# Altium footprint library Package_QFP.PcbLib: 99 footprints (part 7 of 7)
Each footprint in its own frame and in the unit in brackets; x right, y up, seen from the top. Pads: shape width x height; smd on the part's side, far side on the other; paste and mask are expansions set on the pad; w line width, h text height; cw(c..) or ccw(c..) is an arc to the next point about the centre after c.
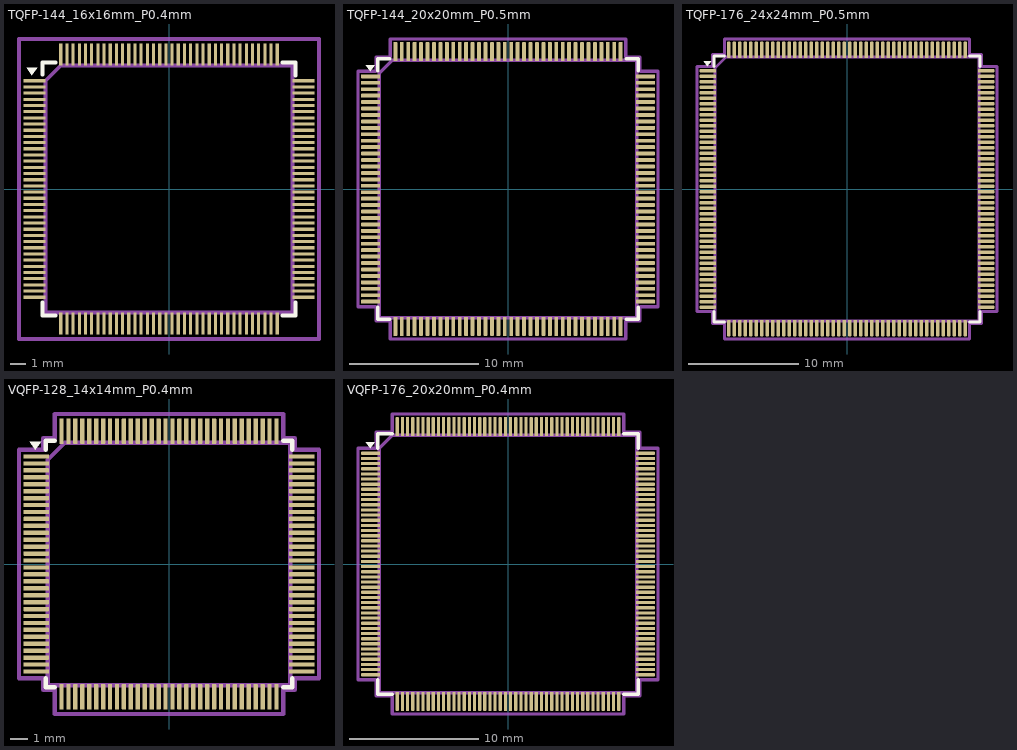
[diagram p6: the footprints below, top view; thin cyan lines are the x and y axes]

## TQFP-144_16x16mm_P0.4mm [mm]
pads (144):
  rect 1.45x0.2 smd: 1(-8.7,7) 2(-8.7,6.6) 3(-8.7,6.2) 4(-8.7,5.8) 5(-8.7,5.4) 6(-8.7,5) 7(-8.7,4.6) 8(-8.7,4.2) 9(-8.7,3.8) 10(-8.7,3.4) 11(-8.7,3) 12(-8.7,2.6) 13(-8.7,2.2) 14(-8.7,1.8) 15(-8.7,1.4) 16(-8.7,1) 17(-8.7,0.6) 18(-8.7,0.2) 19(-8.7,-0.2) 20(-8.7,-0.6) 21(-8.7,-1) 22(-8.7,-1.4) 23(-8.7,-1.8) 24(-8.7,-2.2) 25(-8.7,-2.6) 26(-8.7,-3) 27(-8.7,-3.4) 28(-8.7,-3.8) 29(-8.7,-4.2) 30(-8.7,-4.6) 31(-8.7,-5) 32(-8.7,-5.4) 33(-8.7,-5.8) 34(-8.7,-6.2) 35(-8.7,-6.6) 36(-8.7,-7) 73(8.7,-7) 74(8.7,-6.6) 75(8.7,-6.2) 76(8.7,-5.8) 77(8.7,-5.4) 78(8.7,-5) 79(8.7,-4.6) 80(8.7,-4.2) 81(8.7,-3.8) 82(8.7,-3.4) 83(8.7,-3) 84(8.7,-2.6) 85(8.7,-2.2) 86(8.7,-1.8) 87(8.7,-1.4) 88(8.7,-1) 89(8.7,-0.6) 90(8.7,-0.2) 91(8.7,0.2) 92(8.7,0.6) 93(8.7,1) 94(8.7,1.4) 95(8.7,1.8) 96(8.7,2.2) 97(8.7,2.6) 98(8.7,3) 99(8.7,3.4) 100(8.7,3.8) 101(8.7,4.2) 102(8.7,4.6) 103(8.7,5) 104(8.7,5.4) 105(8.7,5.8) 106(8.7,6.2) 107(8.7,6.6) 108(8.7,7)
  rect 0.2x1.45 smd: 37(-7,-8.7) 38(-6.6,-8.7) 39(-6.2,-8.7) 40(-5.8,-8.7) 41(-5.4,-8.7) 42(-5,-8.7) 43(-4.6,-8.7) 44(-4.2,-8.7) 45(-3.8,-8.7) 46(-3.4,-8.7) 47(-3,-8.7) 48(-2.6,-8.7) 49(-2.2,-8.7) 50(-1.8,-8.7) 51(-1.4,-8.7) 52(-1,-8.7) 53(-0.6,-8.7) 54(-0.2,-8.7) 55(0.2,-8.7) 56(0.6,-8.7) 57(1,-8.7) 58(1.4,-8.7) 59(1.8,-8.7) 60(2.2,-8.7) 61(2.6,-8.7) 62(3,-8.7) 63(3.4,-8.7) 64(3.8,-8.7) 65(4.2,-8.7) 66(4.6,-8.7) 67(5,-8.7) 68(5.4,-8.7) 69(5.8,-8.7) 70(6.2,-8.7) 71(6.6,-8.7) 72(7,-8.7) 109(7,8.7) 110(6.6,8.7) 111(6.2,8.7) 112(5.8,8.7) 113(5.4,8.7) 114(5,8.7) 115(4.6,8.7) 116(4.2,8.7) 117(3.8,8.7) 118(3.4,8.7) 119(3,8.7) 120(2.6,8.7) 121(2.2,8.7) 122(1.8,8.7) 123(1.4,8.7) 124(1,8.7) 125(0.6,8.7) 126(0.2,8.7) 127(-0.2,8.7) 128(-0.6,8.7) 129(-1,8.7) 130(-1.4,8.7) 131(-1.8,8.7) 132(-2.2,8.7) 133(-2.6,8.7) 134(-3,8.7) 135(-3.4,8.7) 136(-3.8,8.7) 137(-4.2,8.7) 138(-4.6,8.7) 139(-5,8.7) 140(-5.4,8.7) 141(-5.8,8.7) 142(-6.2,8.7) 143(-6.6,8.7) 144(-7,8.7)
F.SilkS:
  region: -8.87,7.36 -9.21,7.83 -8.53,7.83
  lines w0.254: -8.175,-7.325 -8.175,-8.175 -7.325,-8.175 ; -8.175,7.4 -8.175,8.175 -7.325,8.175 ; 7.325,-8.175 8.175,-8.175 8.175,-7.325 ; 7.325,8.175 8.175,8.175 8.175,7.325
Top Assembly:
  lines w0.254: -8,-8 8,-8 8,8 -7,8 -8,7 -8,-8
  text "'.Designator'" at -4.047,-0.84 h1
Top Courtyard:
  lines w0.254: -9.7,-9.7 9.7,-9.7 9.7,9.7 -9.7,9.7 -9.7,-9.7
Top Designator:
  text ".Designator" at -7.618,-0.508 h1.52

## TQFP-144_20x20mm_P0.5mm [mm]
pads (144):
  rrect25% 1.475x0.3 smd: 1(-10.663,8.75) 2(-10.663,8.25) 3(-10.663,7.75) 4(-10.663,7.25) 5(-10.663,6.75) 6(-10.663,6.25) 7(-10.663,5.75) 8(-10.663,5.25) 9(-10.663,4.75) 10(-10.663,4.25) 11(-10.663,3.75) 12(-10.663,3.25) 13(-10.663,2.75) 14(-10.663,2.25) 15(-10.663,1.75) 16(-10.663,1.25) 17(-10.663,0.75) 18(-10.663,0.25) 19(-10.663,-0.25) 20(-10.663,-0.75) 21(-10.663,-1.25) 22(-10.663,-1.75) 23(-10.663,-2.25) 24(-10.663,-2.75) 25(-10.663,-3.25) 26(-10.663,-3.75) 27(-10.663,-4.25) 28(-10.663,-4.75) 29(-10.663,-5.25) 30(-10.663,-5.75) 31(-10.663,-6.25) 32(-10.663,-6.75) 33(-10.663,-7.25) 34(-10.663,-7.75) 35(-10.663,-8.25) 36(-10.663,-8.75) 73(10.663,-8.75) 74(10.663,-8.25) 75(10.663,-7.75) 76(10.663,-7.25) 77(10.663,-6.75) 78(10.663,-6.25) 79(10.663,-5.75) 80(10.663,-5.25) 81(10.663,-4.75) 82(10.663,-4.25) 83(10.663,-3.75) 84(10.663,-3.25) 85(10.663,-2.75) 86(10.663,-2.25) 87(10.663,-1.75) 88(10.663,-1.25) 89(10.663,-0.75) 90(10.663,-0.25) 91(10.663,0.25) 92(10.663,0.75) 93(10.663,1.25) 94(10.663,1.75) 95(10.663,2.25) 96(10.663,2.75) 97(10.663,3.25) 98(10.663,3.75) 99(10.663,4.25) 100(10.663,4.75) 101(10.663,5.25) 102(10.663,5.75) 103(10.663,6.25) 104(10.663,6.75) 105(10.663,7.25) 106(10.663,7.75) 107(10.663,8.25) 108(10.663,8.75)
  rrect25% 0.3x1.475 smd: 37(-8.75,-10.663) 38(-8.25,-10.663) 39(-7.75,-10.663) 40(-7.25,-10.663) 41(-6.75,-10.663) 42(-6.25,-10.663) 43(-5.75,-10.663) 44(-5.25,-10.663) 45(-4.75,-10.663) 46(-4.25,-10.663) 47(-3.75,-10.663) 48(-3.25,-10.663) 49(-2.75,-10.663) 50(-2.25,-10.663) 51(-1.75,-10.663) 52(-1.25,-10.663) 53(-0.75,-10.663) 54(-0.25,-10.663) 55(0.25,-10.663) 56(0.75,-10.663) 57(1.25,-10.663) 58(1.75,-10.663) 59(2.25,-10.663) 60(2.75,-10.663) 61(3.25,-10.663) 62(3.75,-10.663) 63(4.25,-10.663) 64(4.75,-10.663) 65(5.25,-10.663) 66(5.75,-10.663) 67(6.25,-10.663) 68(6.75,-10.663) 69(7.25,-10.663) 70(7.75,-10.663) 71(8.25,-10.663) 72(8.75,-10.663) 109(8.75,10.663) 110(8.25,10.663) 111(7.75,10.663) 112(7.25,10.663) 113(6.75,10.663) 114(6.25,10.663) 115(5.75,10.663) 116(5.25,10.663) 117(4.75,10.663) 118(4.25,10.663) 119(3.75,10.663) 120(3.25,10.663) 121(2.75,10.663) 122(2.25,10.663) 123(1.75,10.663) 124(1.25,10.663) 125(0.75,10.663) 126(0.25,10.663) 127(-0.25,10.663) 128(-0.75,10.663) 129(-1.25,10.663) 130(-1.75,10.663) 131(-2.25,10.663) 132(-2.75,10.663) 133(-3.25,10.663) 134(-3.75,10.663) 135(-4.25,10.663) 136(-4.75,10.663) 137(-5.25,10.663) 138(-5.75,10.663) 139(-6.25,10.663) 140(-6.75,10.663) 141(-7.25,10.663) 142(-7.75,10.663) 143(-8.25,10.663) 144(-8.75,10.663)
F.SilkS:
  region: -10.7,9.16 -11.04,9.63 -10.36,9.63
  lines w0.254: -10.11,-9.16 -10.11,-10.11 -9.16,-10.11 ; -10.11,9.16 -10.11,10.11 -9.16,10.11 ; 9.16,-10.11 10.11,-10.11 10.11,-9.16 ; 9.16,10.11 10.11,10.11 10.11,9.16
Top Assembly:
  lines w0.254: -10,-10 10,-10 10,10 -9,10 -10,9 -10,-10
  text "'.Designator'" at -4.047,-0.84 h1
Top Courtyard:
  lines w0.254: -11.65,-9.15 -10.25,-9.15 -10.25,-10.25 -9.15,-10.25 -9.15,-11.65 9.15,-11.65 9.15,-10.25 10.25,-10.25 10.25,-9.15 11.65,-9.15 11.65,9.15 10.25,9.15 10.25,10.25 9.15,10.25 9.15,11.65 -9.15,11.65 -9.15,10.25 -10.25,10.25 -10.25,9.15 -11.65,9.15 -11.65,-9.15
Top Designator:
  text ".Designator" at -7.618,-0.508 h1.52

## TQFP-176_24x24mm_P0.5mm [mm]
pads (176):
  rrect25% 1.475x0.3 smd: 1(-12.662,10.75) 2(-12.662,10.25) 3(-12.662,9.75) 4(-12.662,9.25) 5(-12.662,8.75) 6(-12.662,8.25) 7(-12.662,7.75) 8(-12.662,7.25) 9(-12.662,6.75) 10(-12.662,6.25) 11(-12.662,5.75) 12(-12.662,5.25) 13(-12.662,4.75) 14(-12.662,4.25) 15(-12.662,3.75) 16(-12.662,3.25) 17(-12.662,2.75) 18(-12.662,2.25) 19(-12.662,1.75) 20(-12.662,1.25) 21(-12.662,0.75) 22(-12.662,0.25) 23(-12.662,-0.25) 24(-12.662,-0.75) 25(-12.662,-1.25) 26(-12.662,-1.75) 27(-12.662,-2.25) 28(-12.662,-2.75) 29(-12.662,-3.25) 30(-12.662,-3.75) 31(-12.662,-4.25) 32(-12.662,-4.75) 33(-12.662,-5.25) 34(-12.662,-5.75) 35(-12.662,-6.25) 36(-12.662,-6.75) 37(-12.662,-7.25) 38(-12.662,-7.75) 39(-12.662,-8.25) 40(-12.662,-8.75) 41(-12.662,-9.25) 42(-12.662,-9.75) 43(-12.662,-10.25) 44(-12.662,-10.75) 89(12.662,-10.75) 90(12.662,-10.25) 91(12.662,-9.75) 92(12.662,-9.25) 93(12.662,-8.75) 94(12.662,-8.25) 95(12.662,-7.75) 96(12.662,-7.25) 97(12.662,-6.75) 98(12.662,-6.25) 99(12.662,-5.75) 100(12.662,-5.25) 101(12.662,-4.75) 102(12.662,-4.25) 103(12.662,-3.75) 104(12.662,-3.25) 105(12.662,-2.75) 106(12.662,-2.25) 107(12.662,-1.75) 108(12.662,-1.25) 109(12.662,-0.75) 110(12.662,-0.25) 111(12.662,0.25) 112(12.662,0.75) 113(12.662,1.25) 114(12.662,1.75) 115(12.662,2.25) 116(12.662,2.75) 117(12.662,3.25) 118(12.662,3.75) 119(12.662,4.25) 120(12.662,4.75) 121(12.662,5.25) 122(12.662,5.75) 123(12.662,6.25) 124(12.662,6.75) 125(12.662,7.25) 126(12.662,7.75) 127(12.662,8.25) 128(12.662,8.75) 129(12.662,9.25) 130(12.662,9.75) 131(12.662,10.25) 132(12.662,10.75)
  rrect25% 0.3x1.475 smd: 45(-10.75,-12.662) 46(-10.25,-12.662) 47(-9.75,-12.662) 48(-9.25,-12.662) 49(-8.75,-12.662) 50(-8.25,-12.662) 51(-7.75,-12.662) 52(-7.25,-12.662) 53(-6.75,-12.662) 54(-6.25,-12.662) 55(-5.75,-12.662) 56(-5.25,-12.662) 57(-4.75,-12.662) 58(-4.25,-12.662) 59(-3.75,-12.662) 60(-3.25,-12.662) 61(-2.75,-12.662) 62(-2.25,-12.662) 63(-1.75,-12.662) 64(-1.25,-12.662) 65(-0.75,-12.662) 66(-0.25,-12.662) 67(0.25,-12.662) 68(0.75,-12.662) 69(1.25,-12.662) 70(1.75,-12.662) 71(2.25,-12.662) 72(2.75,-12.662) 73(3.25,-12.662) 74(3.75,-12.662) 75(4.25,-12.662) 76(4.75,-12.662) 77(5.25,-12.662) 78(5.75,-12.662) 79(6.25,-12.662) 80(6.75,-12.662) 81(7.25,-12.662) 82(7.75,-12.662) 83(8.25,-12.662) 84(8.75,-12.662) 85(9.25,-12.662) 86(9.75,-12.662) 87(10.25,-12.662) 88(10.75,-12.662) 133(10.75,12.662) 134(10.25,12.662) 135(9.75,12.662) 136(9.25,12.662) 137(8.75,12.662) 138(8.25,12.662) 139(7.75,12.662) 140(7.25,12.662) 141(6.75,12.662) 142(6.25,12.662) 143(5.75,12.662) 144(5.25,12.662) 145(4.75,12.662) 146(4.25,12.662) 147(3.75,12.662) 148(3.25,12.662) 149(2.75,12.662) 150(2.25,12.662) 151(1.75,12.662) 152(1.25,12.662) 153(0.75,12.662) 154(0.25,12.662) 155(-0.25,12.662) 156(-0.75,12.662) 157(-1.25,12.662) 158(-1.75,12.662) 159(-2.25,12.662) 160(-2.75,12.662) 161(-3.25,12.662) 162(-3.75,12.662) 163(-4.25,12.662) 164(-4.75,12.662) 165(-5.25,12.662) 166(-5.75,12.662) 167(-6.25,12.662) 168(-6.75,12.662) 169(-7.25,12.662) 170(-7.75,12.662) 171(-8.25,12.662) 172(-8.75,12.662) 173(-9.25,12.662) 174(-9.75,12.662) 175(-10.25,12.662) 176(-10.75,12.662)
F.SilkS:
  region: -12.7,11.16 -13.04,11.63 -12.36,11.63
  lines w0.254: -12.11,-11.16 -12.11,-12.11 -11.16,-12.11 ; -12.11,11.16 -12.11,12.11 -11.16,12.11 ; 11.16,-12.11 12.11,-12.11 12.11,-11.16 ; 11.16,12.11 12.11,12.11 12.11,11.16
Top Assembly:
  lines w0.254: -12,-12 12,-12 12,12 -11,12 -12,11 -12,-12
  text "'.Designator'" at -4.047,-0.84 h1
Top Courtyard:
  lines w0.254: -13.65,-11.15 -12.25,-11.15 -12.25,-12.25 -11.15,-12.25 -11.15,-13.65 11.15,-13.65 11.15,-12.25 12.25,-12.25 12.25,-11.15 13.65,-11.15 13.65,11.15 12.25,11.15 12.25,12.25 11.15,12.25 11.15,13.65 -11.15,13.65 -11.15,12.25 -12.25,12.25 -12.25,11.15 -13.65,11.15 -13.65,-11.15
Top Designator:
  text ".Designator" at -7.618,-0.508 h1.52

## VQFP-128_14x14mm_P0.4mm [mm]
pads (128):
  rrect25% 1.475x0.25 smd: 1(-7.662,6.2) 2(-7.662,5.8) 3(-7.662,5.4) 4(-7.662,5) 5(-7.662,4.6) 6(-7.662,4.2) 7(-7.662,3.8) 8(-7.662,3.4) 9(-7.662,3) 10(-7.662,2.6) 11(-7.662,2.2) 12(-7.662,1.8) 13(-7.662,1.4) 14(-7.662,1) 15(-7.662,0.6) 16(-7.662,0.2) 17(-7.662,-0.2) 18(-7.662,-0.6) 19(-7.662,-1) 20(-7.662,-1.4) 21(-7.662,-1.8) 22(-7.662,-2.2) 23(-7.662,-2.6) 24(-7.662,-3) 25(-7.662,-3.4) 26(-7.662,-3.8) 27(-7.662,-4.2) 28(-7.662,-4.6) 29(-7.662,-5) 30(-7.662,-5.4) 31(-7.662,-5.8) 32(-7.662,-6.2) 65(7.662,-6.2) 66(7.662,-5.8) 67(7.662,-5.4) 68(7.662,-5) 69(7.662,-4.6) 70(7.662,-4.2) 71(7.662,-3.8) 72(7.662,-3.4) 73(7.662,-3) 74(7.662,-2.6) 75(7.662,-2.2) 76(7.662,-1.8) 77(7.662,-1.4) 78(7.662,-1) 79(7.662,-0.6) 80(7.662,-0.2) 81(7.662,0.2) 82(7.662,0.6) 83(7.662,1) 84(7.662,1.4) 85(7.662,1.8) 86(7.662,2.2) 87(7.662,2.6) 88(7.662,3) 89(7.662,3.4) 90(7.662,3.8) 91(7.662,4.2) 92(7.662,4.6) 93(7.662,5) 94(7.662,5.4) 95(7.662,5.8) 96(7.662,6.2)
  rrect25% 0.25x1.475 smd: 33(-6.2,-7.662) 34(-5.8,-7.662) 35(-5.4,-7.662) 36(-5,-7.662) 37(-4.6,-7.662) 38(-4.2,-7.662) 39(-3.8,-7.662) 40(-3.4,-7.662) 41(-3,-7.662) 42(-2.6,-7.662) 43(-2.2,-7.662) 44(-1.8,-7.662) 45(-1.4,-7.662) 46(-1,-7.662) 47(-0.6,-7.662) 48(-0.2,-7.662) 49(0.2,-7.662) 50(0.6,-7.662) 51(1,-7.662) 52(1.4,-7.662) 53(1.8,-7.662) 54(2.2,-7.662) 55(2.6,-7.662) 56(3,-7.662) 57(3.4,-7.662) 58(3.8,-7.662) 59(4.2,-7.662) 60(4.6,-7.662) 61(5,-7.662) 62(5.4,-7.662) 63(5.8,-7.662) 64(6.2,-7.662) 97(6.2,7.662) 98(5.8,7.662) 99(5.4,7.662) 100(5,7.662) 101(4.6,7.662) 102(4.2,7.662) 103(3.8,7.662) 104(3.4,7.662) 105(3,7.662) 106(2.6,7.662) 107(2.2,7.662) 108(1.8,7.662) 109(1.4,7.662) 110(1,7.662) 111(0.6,7.662) 112(0.2,7.662) 113(-0.2,7.662) 114(-0.6,7.662) 115(-1,7.662) 116(-1.4,7.662) 117(-1.8,7.662) 118(-2.2,7.662) 119(-2.6,7.662) 120(-3,7.662) 121(-3.4,7.662) 122(-3.8,7.662) 123(-4.2,7.662) 124(-4.6,7.662) 125(-5,7.662) 126(-5.4,7.662) 127(-5.8,7.662) 128(-6.2,7.662)
F.SilkS:
  region: -7.7,6.585 -8.04,7.055 -7.36,7.055
  lines w0.254: -7.11,-6.585 -7.11,-7.11 -6.585,-7.11 ; -7.11,6.585 -7.11,7.11 -6.585,7.11 ; 6.585,-7.11 7.11,-7.11 7.11,-6.585 ; 6.585,7.11 7.11,7.11 7.11,6.585
Top Assembly:
  lines w0.254: -7,-7 7,-7 7,7 -6,7 -7,6 -7,-7
  text "'.Designator'" at -4.047,-0.84 h1
Top Courtyard:
  lines w0.254: -8.65,-6.58 -7.25,-6.58 -7.25,-7.25 -6.58,-7.25 -6.58,-8.65 6.58,-8.65 6.58,-7.25 7.25,-7.25 7.25,-6.58 8.65,-6.58 8.65,6.58 7.25,6.58 7.25,7.25 6.58,7.25 6.58,8.65 -6.58,8.65 -6.58,7.25 -7.25,7.25 -7.25,6.58 -8.65,6.58 -8.65,-6.58
Top Designator:
  text ".Designator" at -7.618,-0.508 h1.52

## VQFP-176_20x20mm_P0.4mm [mm]
pads (176):
  rrect25% 1.475x0.25 smd: 1(-10.663,8.6) 2(-10.663,8.2) 3(-10.663,7.8) 4(-10.663,7.4) 5(-10.663,7) 6(-10.663,6.6) 7(-10.663,6.2) 8(-10.663,5.8) 9(-10.663,5.4) 10(-10.663,5) 11(-10.663,4.6) 12(-10.663,4.2) 13(-10.663,3.8) 14(-10.663,3.4) 15(-10.663,3) 16(-10.663,2.6) 17(-10.663,2.2) 18(-10.663,1.8) 19(-10.663,1.4) 20(-10.663,1) 21(-10.663,0.6) 22(-10.663,0.2) 23(-10.663,-0.2) 24(-10.663,-0.6) 25(-10.663,-1) 26(-10.663,-1.4) 27(-10.663,-1.8) 28(-10.663,-2.2) 29(-10.663,-2.6) 30(-10.663,-3) 31(-10.663,-3.4) 32(-10.663,-3.8) 33(-10.663,-4.2) 34(-10.663,-4.6) 35(-10.663,-5) 36(-10.663,-5.4) 37(-10.663,-5.8) 38(-10.663,-6.2) 39(-10.663,-6.6) 40(-10.663,-7) 41(-10.663,-7.4) 42(-10.663,-7.8) 43(-10.663,-8.2) 44(-10.663,-8.6) 89(10.663,-8.6) 90(10.663,-8.2) 91(10.663,-7.8) 92(10.663,-7.4) 93(10.663,-7) 94(10.663,-6.6) 95(10.663,-6.2) 96(10.663,-5.8) 97(10.663,-5.4) 98(10.663,-5) 99(10.663,-4.6) 100(10.663,-4.2) 101(10.663,-3.8) 102(10.663,-3.4) 103(10.663,-3) 104(10.663,-2.6) 105(10.663,-2.2) 106(10.663,-1.8) 107(10.663,-1.4) 108(10.663,-1) 109(10.663,-0.6) 110(10.663,-0.2) 111(10.663,0.2) 112(10.663,0.6) 113(10.663,1) 114(10.663,1.4) 115(10.663,1.8) 116(10.663,2.2) 117(10.663,2.6) 118(10.663,3) 119(10.663,3.4) 120(10.663,3.8) 121(10.663,4.2) 122(10.663,4.6) 123(10.663,5) 124(10.663,5.4) 125(10.663,5.8) 126(10.663,6.2) 127(10.663,6.6) 128(10.663,7) 129(10.663,7.4) 130(10.663,7.8) 131(10.663,8.2) 132(10.663,8.6)
  rrect25% 0.25x1.475 smd: 45(-8.6,-10.663) 46(-8.2,-10.663) 47(-7.8,-10.663) 48(-7.4,-10.663) 49(-7,-10.663) 50(-6.6,-10.663) 51(-6.2,-10.663) 52(-5.8,-10.663) 53(-5.4,-10.663) 54(-5,-10.663) 55(-4.6,-10.663) 56(-4.2,-10.663) 57(-3.8,-10.663) 58(-3.4,-10.663) 59(-3,-10.663) 60(-2.6,-10.663) 61(-2.2,-10.663) 62(-1.8,-10.663) 63(-1.4,-10.663) 64(-1,-10.663) 65(-0.6,-10.663) 66(-0.2,-10.663) 67(0.2,-10.663) 68(0.6,-10.663) 69(1,-10.663) 70(1.4,-10.663) 71(1.8,-10.663) 72(2.2,-10.663) 73(2.6,-10.663) 74(3,-10.663) 75(3.4,-10.663) 76(3.8,-10.663) 77(4.2,-10.663) 78(4.6,-10.663) 79(5,-10.663) 80(5.4,-10.663) 81(5.8,-10.663) 82(6.2,-10.663) 83(6.6,-10.663) 84(7,-10.663) 85(7.4,-10.663) 86(7.8,-10.663) 87(8.2,-10.663) 88(8.6,-10.663) 133(8.6,10.663) 134(8.2,10.663) 135(7.8,10.663) 136(7.4,10.663) 137(7,10.663) 138(6.6,10.663) 139(6.2,10.663) 140(5.8,10.663) 141(5.4,10.663) 142(5,10.663) 143(4.6,10.663) 144(4.2,10.663) 145(3.8,10.663) 146(3.4,10.663) 147(3,10.663) 148(2.6,10.663) 149(2.2,10.663) 150(1.8,10.663) 151(1.4,10.663) 152(1,10.663) 153(0.6,10.663) 154(0.2,10.663) 155(-0.2,10.663) 156(-0.6,10.663) 157(-1,10.663) 158(-1.4,10.663) 159(-1.8,10.663) 160(-2.2,10.663) 161(-2.6,10.663) 162(-3,10.663) 163(-3.4,10.663) 164(-3.8,10.663) 165(-4.2,10.663) 166(-4.6,10.663) 167(-5,10.663) 168(-5.4,10.663) 169(-5.8,10.663) 170(-6.2,10.663) 171(-6.6,10.663) 172(-7,10.663) 173(-7.4,10.663) 174(-7.8,10.663) 175(-8.2,10.663) 176(-8.6,10.663)
F.SilkS:
  region: -10.7,8.985 -11.04,9.455 -10.36,9.455
  lines w0.254: -10.11,-8.985 -10.11,-10.11 -8.985,-10.11 ; -10.11,8.985 -10.11,10.11 -8.985,10.11 ; 8.985,-10.11 10.11,-10.11 10.11,-8.985 ; 8.985,10.11 10.11,10.11 10.11,8.985
Top Assembly:
  lines w0.254: -10,-10 10,-10 10,10 -9,10 -10,9 -10,-10
  text "'.Designator'" at -4.047,-0.84 h1
Top Courtyard:
  lines w0.254: -11.65,-8.98 -10.25,-8.98 -10.25,-10.25 -8.98,-10.25 -8.98,-11.65 8.98,-11.65 8.98,-10.25 10.25,-10.25 10.25,-8.98 11.65,-8.98 11.65,8.98 10.25,8.98 10.25,10.25 8.98,10.25 8.98,11.65 -8.98,11.65 -8.98,10.25 -10.25,10.25 -10.25,8.98 -11.65,8.98 -11.65,-8.98
Top Designator:
  text ".Designator" at -7.618,-0.508 h1.52